# EAGLE library part MCP2562 (library can-bus)
High-Speed CAN Transceiver
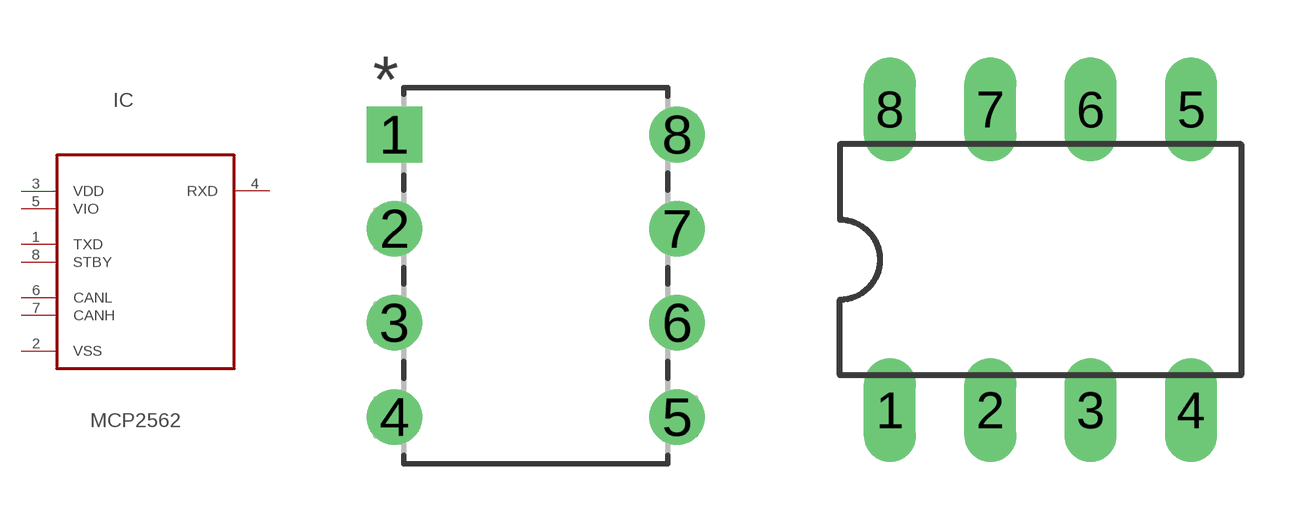
[diagram p3: symbol with the pads of DIP254P762X533-8; footprints DIP254P762X533-8, DIL8]

Designator prefix IC

## MCP2562-E/MF (MPN: MCP2562-E/P; OC_FARNELL: 2362838; OC_NEWARK: 85W9073; PACKAGE: DIP-8; SUPPLIER: MICROCHIP)  [DIP254P762X533-8]
1  TXD  in
2  VSS  pwr
3  VDD  pwr
4  RXD  out
5  VIO  pwr
6  CANL
7  CANH
8  STBY  in

## MCP2562-E/P  [DIL8]
Pads as for DIP254P762X533-8

## MCP2562-E/SN  [SO08]
Pads as for DIP254P762X533-8

## Footprint DIP254P762X533-8 (pad centres in mm)
drill 0.991 square: 1 -7.62,7.62
drill 0.991: 2 -7.62,5.08; 3 -7.62,2.54; 4 -7.62,0; 5 0,0; 6 0,2.54; 7 0,5.08; 8 0,7.62

## Footprint DIL8 (pad centres in mm)
drill 0.813 long: 1 -2.54,1.27; 2 0,1.27; 3 2.54,1.27; 4 5.08,1.27; 5 5.08,8.89; 6 2.54,8.89; 7 0,8.89; 8 -2.54,8.89

## Footprint SO08 (pad centres in mm)
smd 0.66 x 2.032: 1 -1.905,-3.073; 2 -0.635,-3.073; 3 0.635,-3.073; 4 1.905,-3.073; 5 1.905,3.073; 6 0.635,3.073; 7 -0.635,3.073; 8 -1.905,3.073